# Altium footprint library Board.PcbLib: 20 footprints (part 2 of 2)
Each footprint in its own frame and in the unit in brackets; x right, y up, seen from the top. Pads: shape width x height; smd on the part's side, far side on the other; paste and mask are expansions set on the pad; w line width, h text height; cw(c..) or ccw(c..) is an arc to the next point about the centre after c.
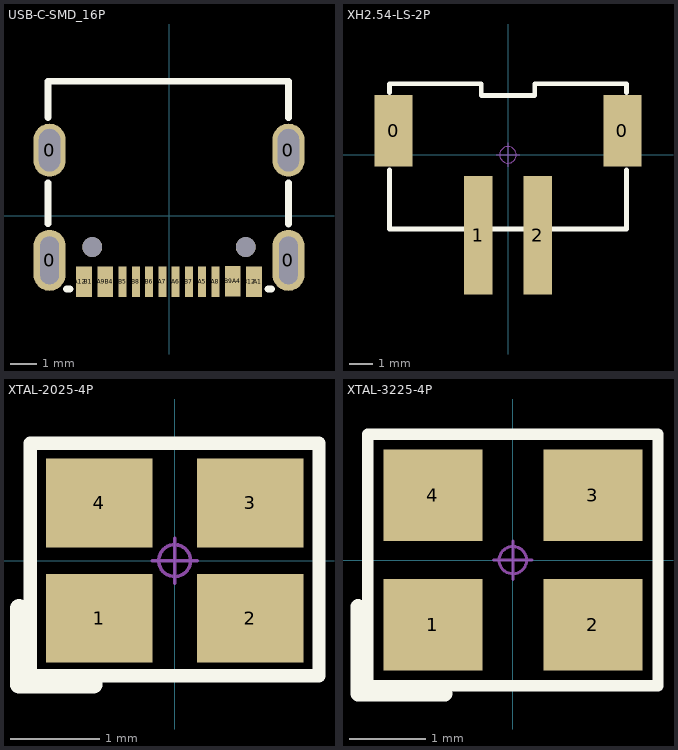
[diagram p1: the footprints below, top view; thin cyan lines are the x and y axes]

## USB-C-SMD_16P [mm] "��װ�������Ա�ID:�ƾ���ʯ"
pads (22):
  oval 1.2x2.3 hole 0.7 slot 1.8 at 90 deg: 0(-4.5,-1.675) 0(4.5,-1.675)
  oval 1.2x2 hole 0.8 slot 1.6 at 90 deg: 0(-4.5,2.475) 0(4.5,2.475)
  rect 0.3x1.15 smd: A1(3.35,-2.473) A4(2.55,-2.471) A5(1.25,-2.475) A6(0.25,-2.475) A7(-0.25,-2.473) A9(-2.55,-2.475) A12(-3.35,-2.475) B1(-3.05,-2.475) B4(-2.25,-2.475) B5(-1.75,-2.475) B6(-0.75,-2.475) B7(0.75,-2.473) B9(2.25,-2.471) B12(3.05,-2.473)
  rect 0.3x1.148 smd: A8(1.75,-2.475) B8(-1.25,-2.475)
  round 0.75 hole 0.75 unplated: ""(-2.89,-1.175) ""(2.89,-1.175)
Top Overlay:
  lines w0.254: -4.557,-0.296 -4.557,1.246 ; -4.557,3.704 -4.557,5.075 4.5,5.075 4.5,3.698 ; -3.856,-2.75 -3.819,-2.75 -3.731,-2.75 ; 3.731,-2.75 3.856,-2.75 ; 4.5,-0.302 4.5,1.252
3D body "USB_TYPE-C_a.STEP": height 3.25, standoff -0.85, extent -4.445,-2.875 4.495,5.025

## XH2.54-LS-2P [mm] "����10mm�����6mm���ߣ�8.3mm    �Ա�ID:�ƾ���ʯ   ������ַ:https://shop463601444.taobao.com"
pads (4):
  rect 1.6x3 smd: 0(-4.826,1.016) 0(4.826,1.016)
  rect 1.2x5 smd: 1(-1.25,-3.383) 2(1.25,-3.383)
Top Overlay:
  lines w0.2: -5,-0.625 -5,-3.125 5,-3.125 5,-0.625 ; 5,2.625 5,3 1.125,3 1.125,2.5 -1.125,2.5 -1.125,3 -5,3 -5,2.625 ; -5,2.625 -5,2.625
Mechanical 15:
  circle w0.05: c0,0 r0.35
  lines w0.05: -0.5,0 0.5,0 ; 0,-0.5 0,0.5
3D body "XH2_54-LS-2P.STEP": height -0.38, standoff -8.38, extent -5,-6 5,3

## XTAL-2025-4P [mm] "2*2.5*0.55mm(�����)"
pads (4):
  rect 1.2x1 smd: 1(-0.85,-0.65) 2(0.85,-0.65) 3(0.85,0.65) 4(-0.85,0.65)
Top Overlay:
  lines w0.15: -1.626,-1.295 -1.626,1.321 1.626,1.321 1.626,-1.295 -1.626,-1.295
  lines w0.2: -1.753,-1.397 -0.914,-1.397 ; -1.753,-1.372 -1.753,-0.533
Mechanical 15:
  circle w0.04: c0,0 r0.18
  lines w0.04: -0.254,0 0.254,0 ; 0,-0.254 0,0.254
3D body "OSC_2025-4.STEP": height 0.55, standoff -0.02, extent -1.25,-1 1.25,1

## XTAL-3225-4P [mm] "3.2*2.5*0.7mm(�����)                             �Ա�ID:�ƾ���ʯ"
pads (4):
  rect 1.3x1.2 smd: 1(-1.05,-0.85) 2(1.05,-0.85) 3(1.05,0.85) 4(-1.05,0.85)
Top Overlay:
  lines w0.15: -1.905,-1.651 1.905,-1.651 1.905,1.651 -1.905,1.651 -1.905,-1.651
  lines w0.2: -2.032,-1.753 -0.889,-1.753 ; -2.032,-1.727 -2.032,-0.61
Mechanical 15:
  circle w0.04: c0,0 r0.18
  lines w0.04: -0.254,0 0.254,0 ; 0,-0.254 0,0.254
3D body "OSC_3225-4.STEP": height 0.7, standoff -0.02, extent -1.6,-1.25 1.6,1.25